# Altium schematic symbol library 开关·连接器.SCHLIB: 72 symbols
Pins are listed as number, name and electrical type; pins without a type are passive.

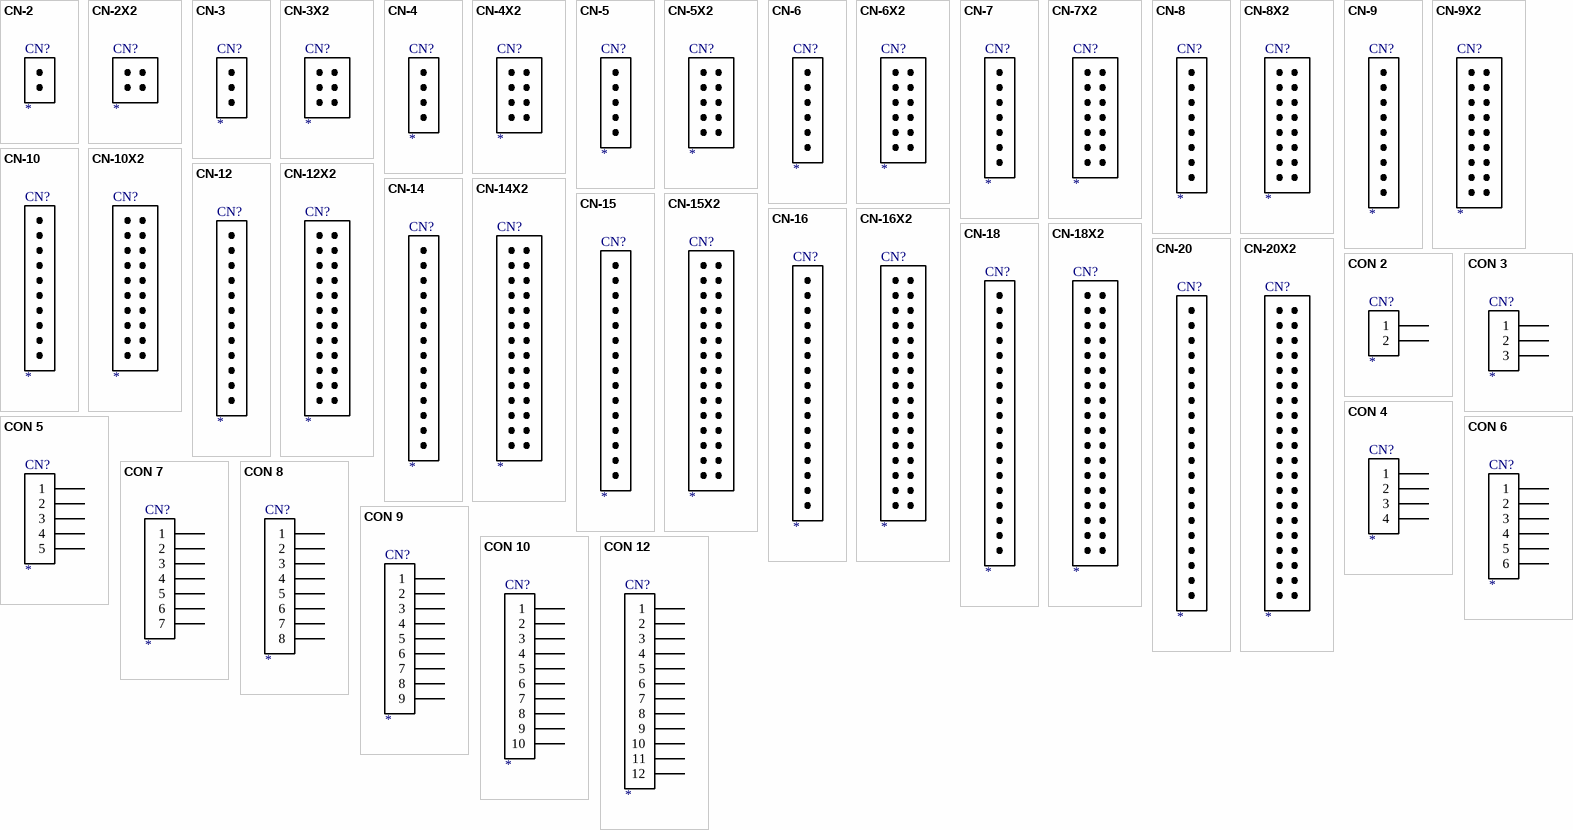
[diagram p0: symbols CN-2 to CON 12]

## CN-2
designator CN?
footprint SIP-2
footprint CN-2
pins: 1, 2

## CN-2X2
designator CN?
footprint IDC-4
pins: 1, 2, 3, 4

## CN-3
designator CN?
footprint SIP-3
footprint CN-3
pins: 1, 2, 3

## CN-3X2
designator CN?
footprint IDC-6
pins: 1, 2, 3, 4, 5, 6

## CN-4
designator CN?
footprint SIP-4
footprint CN-4
pins: 1, 2, 3, 4

## CN-4X2
designator CN?
footprint IDC-8
pins: 1, 2, 3, 4, 5, 6, 7, 8

## CN-5
designator CN?
footprint SIP-5
footprint CN-5
pins: 1, 2, 3, 4, 5

## CN-5X2
designator CN?
footprint IDC-10
pins: 1, 2, 3, 4, 5, 6, 7, 8, 9, 10

## CN-6
designator CN?
footprint SIP-6
footprint CN-6
pins: 1, 2, 3, 4, 5, 6

## CN-6X2
designator CN?
footprint IDC-12
pins: 1, 2, 3, 4, 5, 6, 7, 8, 9, 10, 11, 12

## CN-7
designator CN?
footprint SIP-7
footprint CN-7
pins: 1, 2, 3, 4, 5, 6, 7

## CN-7X2
designator CN?
footprint IDC-14
pins: 1, 2, 3, 4, 5, 6, 7, 8, 9, 10, 11, 12, 13, 14

## CN-8
designator CN?
footprint SIP-8
footprint CN-8
pins: 1, 2, 3, 4, 5, 6, 7, 8

## CN-8X2
designator CN?
footprint IDC-16
pins: 1, 2, 3, 4, 5, 6, 7, 8, 9, 10, 11, 12, 13, 14, 15, 16

## CN-9
designator CN?
footprint SIP-9
footprint CN-9
pins: 1, 2, 3, 4, 5, 6, 7, 8, 9

## CN-9X2
designator CN?
footprint IDC-18
pins: 1, 2, 3, 4, 5, 6, 7, 8, 9, 10, 11, 12, 13, 14, 15, 16, 17, 18

## CN-10
designator CN?
footprint SIP-10
footprint CN-10
pins: 1, 2, 3, 4, 5, 6, 7, 8, 9, 10

## CN-10X2
designator CN?
footprint IDC-20
pins: 1, 2, 3, 4, 5, 6, 7, 8, 9, 10, 11, 12, 13, 14, 15, 16, 17, 18, 19, 20

## CN-12
designator CN?
footprint SIP-12
pins: 1, 2, 3, 4, 5, 6, 7, 8, 9, 10, 11, 12

## CN-12X2
designator CN?
footprint IDC-24
pins: 1, 2, 3, 4, 5, 6, 7, 8, 9, 10, 11, 12, 13, 14, 15, 16, 17, 18, 19, 20, 21, 22, 23, 24

## CN-14
designator CN?
footprint SIP-14
pins: 1, 2, 3, 4, 5, 6, 7, 8, 9, 10, 11, 12, 13, 14

## CN-14X2
designator CN?
footprint IDC-28
pins: 1, 2, 3, 4, 5, 6, 7, 8, 9, 10, 11, 12, 13, 14, 15, 16, 17, 18, 19, 20, 21, 22, 23, 24, 25, 26, 27, 28

## CN-15
designator CN?
footprint SIP-15
pins: 1, 2, 3, 4, 5, 6, 7, 8, 9, 10, 11, 12, 13, 14, 15

## CN-15X2
designator CN?
footprint IDC-30
pins: 1, 2, 3, 4, 5, 6, 7, 8, 9, 10, 11, 12, 13, 14, 15, 16, 17, 18, 19, 20, 21, 22, 23, 24, 25, 26, 27, 28, 29, 30

## CN-16
designator CN?
footprint SIP-16
pins: 1, 2, 3, 4, 5, 6, 7, 8, 9, 10, 11, 12, 13, 14, 15, 16

## CN-16X2
designator CN?
footprint IDC-32
pins: 1, 2, 3, 4, 5, 6, 7, 8, 9, 10, 11, 12, 13, 14, 15, 16, 17, 18, 19, 20, 21, 22, 23, 24, 25, 26, 27, 28, 29, 30, 31, 32

## CN-18
designator CN?
footprint SIP-18
pins: 1, 2, 3, 4, 5, 6, 7, 8, 9, 10, 11, 12, 13, 14, 15, 16, 17, 18

## CN-18X2
designator CN?
footprint IDC-36
pins: 1, 2, 3, 4, 5, 6, 7, 8, 9, 10, 11, 12, 13, 14, 15, 16, 17, 18, 19, 20, 21, 22, 23, 24, 25, 26, 27, 28, 29, 30, 31, 32, 33, 34, 35, 36

## CN-20
designator CN?
footprint SIP-20
pins: 1, 2, 3, 4, 5, 6, 7, 8, 9, 10, 11, 12, 13, 14, 15, 16, 17, 18, 19, 20

## CN-20X2
designator CN?
footprint IDC-40
pins: 1, 2, 3, 4, 5, 6, 7, 8, 9, 10, 11, 12, 13, 14, 15, 16, 17, 18, 19, 20, 21, 22, 23, 24, 25, 26, 27, 28, 29, 30, 31, 32, 33, 34, 35, 36, 37, 38, 39, 40

## CON 2
designator CN?
footprint SIP-2
footprint CN-2
pins: 1, 2

## CON 3
designator CN?
footprint SIP-3
footprint CN-3
pins: 1, 2, 3

## CON 4
designator CN?
footprint SIP-4
footprint CN-4
pins: 1, 2, 3, 4

## CON 5
designator CN?
footprint SIP-5
footprint CN-5
pins: 1, 2, 3, 4, 5

## CON 6
designator CN?
footprint SIP-6
footprint CN-6
pins: 1, 2, 3, 4, 5, 6

## CON 7
designator CN?
footprint SIP-7
footprint CN-7
pins: 1, 2, 3, 4, 5, 6, 7

## CON 8
designator CN?
footprint SIP-8
footprint CN-8
pins: 1, 2, 3, 4, 5, 6, 7, 8

## CON 9
designator CN?
footprint SIP-9
footprint CN-9
pins: 1, 2, 3, 4, 5, 6, 7, 8, 9

## CON 10
designator CN?
footprint SIP-10
footprint CN-10
pins: 1, 2, 3, 4, 5, 6, 7, 8, 9, 10

## CON 12
designator CN?
footprint SIP-12
pins: 1, 2, 3, 4, 5, 6, 7, 8, 9, 10, 11, 12

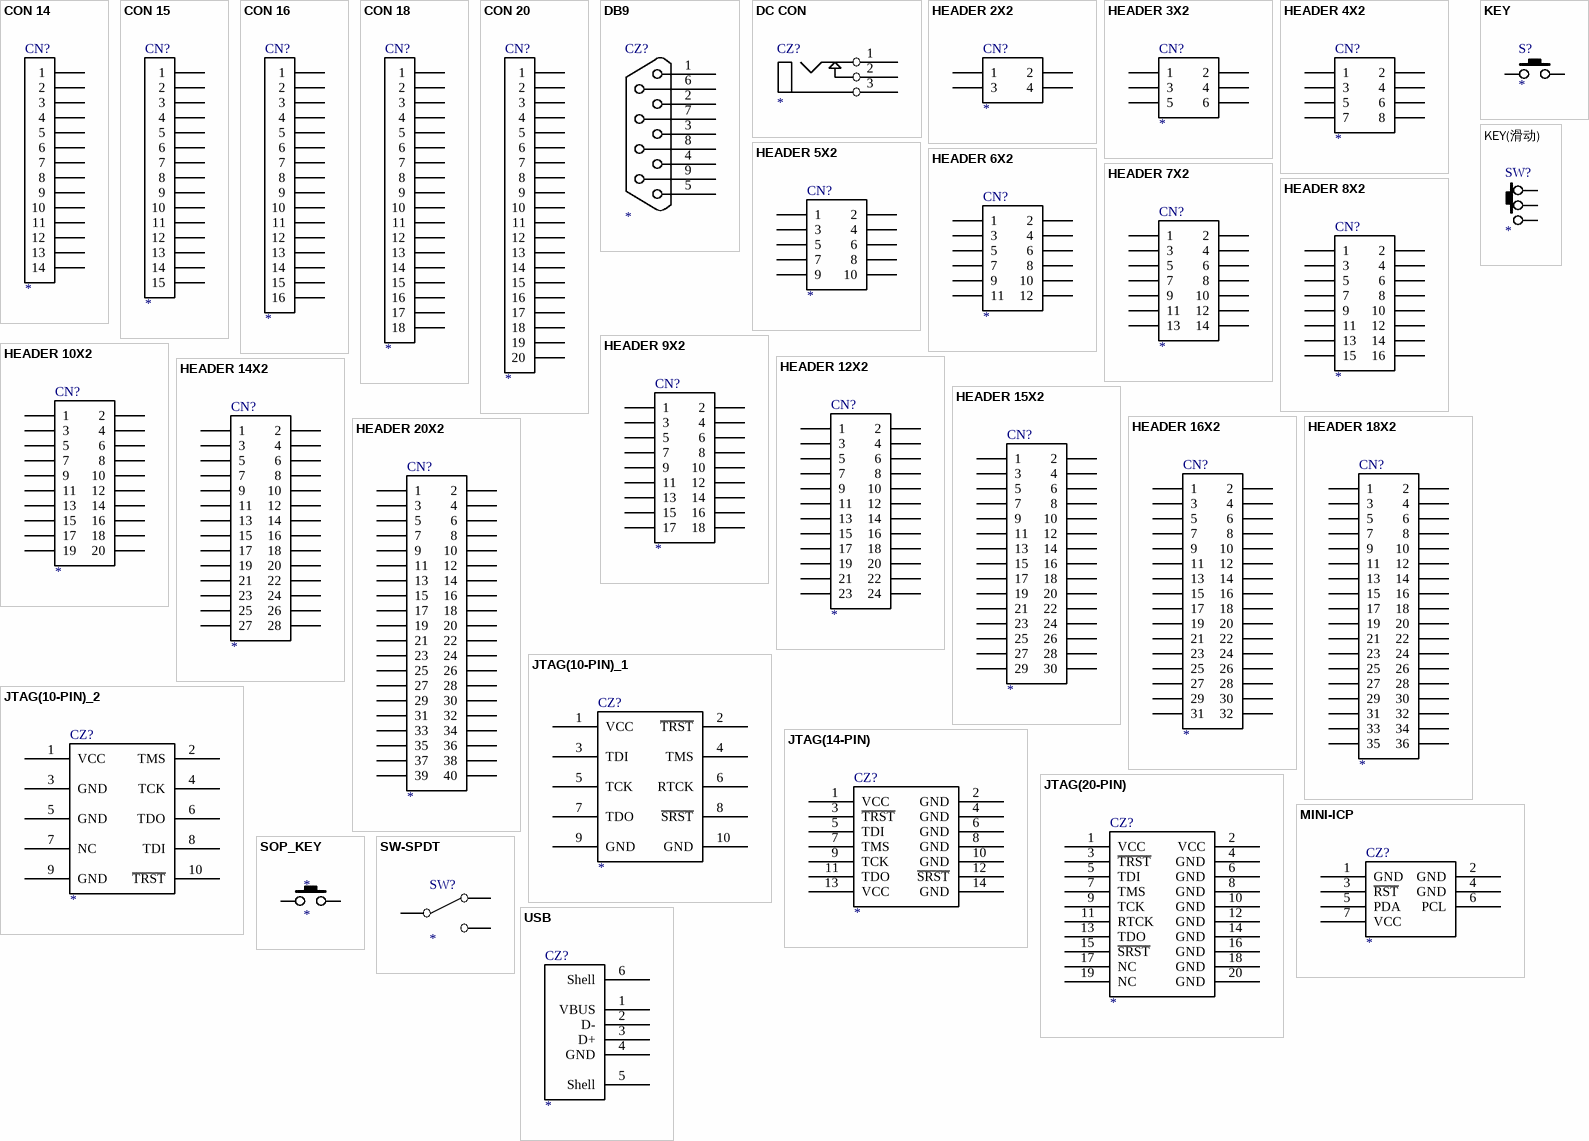
[diagram p1: symbols CON 14 to USB]

## CON 14
designator CN?
footprint SIP-14
pins: 1, 2, 3, 4, 5, 6, 7, 8, 9, 10, 11, 12, 13, 14

## CON 15
designator CN?
footprint SIP-15
pins: 1, 2, 3, 4, 5, 6, 7, 8, 9, 10, 11, 12, 13, 14, 15

## CON 16
designator CN?
footprint SIP-16
pins: 1, 2, 3, 4, 5, 6, 7, 8, 9, 10, 11, 12, 13, 14, 15, 16

## CON 18
designator CN?
footprint SIP-18
pins: 1, 2, 3, 4, 5, 6, 7, 8, 9, 10, 11, 12, 13, 14, 15, 16, 17, 18

## CON 20
designator CN?
footprint SIP-20
pins: 1, 2, 3, 4, 5, 6, 7, 8, 9, 10, 11, 12, 13, 14, 15, 16, 17, 18, 19, 20

## DB9
designator CZ?
footprint DB9-F(90°)
footprint DB9-M(90°)
pins: 1, 2, 3, 4, 5, 6, 7, 8, 9

## DC CON
designator CZ?
footprint DC-005(P)
footprint DC-005(N)
pins: 1 A, 2 B, 3 C

## HEADER 2X2
designator CN?
footprint IDC-4
pins: 1, 2, 3, 4

## HEADER 3X2
designator CN?
footprint IDC-6
pins: 1, 2, 3, 4, 5, 6

## HEADER 4X2
designator CN?
footprint IDC-8
pins: 1, 2, 3, 4, 5, 6, 7, 8

## HEADER 5X2
designator CN?
footprint IDC-10
pins: 1, 2, 3, 4, 5, 6, 7, 8, 9, 10

## HEADER 6X2
designator CN?
footprint IDC-12
pins: 1, 2, 3, 4, 5, 6, 7, 8, 9, 10, 11, 12

## HEADER 7X2
designator CN?
footprint IDC-14
pins: 1, 2, 3, 4, 5, 6, 7, 8, 9, 10, 11, 12, 13, 14

## HEADER 8X2
designator CN?
footprint IDC-16
pins: 1, 2, 3, 4, 5, 6, 7, 8, 9, 10, 11, 12, 13, 14, 15, 16

## HEADER 9X2
designator CN?
footprint IDC-18
pins: 1, 2, 3, 4, 5, 6, 7, 8, 9, 10, 11, 12, 13, 14, 15, 16, 17, 18

## HEADER 10X2
designator CN?
footprint IDC-20
pins: 1, 2, 3, 4, 5, 6, 7, 8, 9, 10, 11, 12, 13, 14, 15, 16, 17, 18, 19, 20

## HEADER 12X2
designator CN?
footprint IDC-24
pins: 1, 2, 3, 4, 5, 6, 7, 8, 9, 10, 11, 12, 13, 14, 15, 16, 17, 18, 19, 20, 21, 22, 23, 24

## HEADER 14X2
designator CN?
footprint IDC-28
pins: 1, 2, 3, 4, 5, 6, 7, 8, 9, 10, 11, 12, 13, 14, 15, 16, 17, 18, 19, 20, 21, 22, 23, 24, 25, 26, 27, 28

## HEADER 15X2
designator CN?
footprint IDC-30
pins: 1, 2, 3, 4, 5, 6, 7, 8, 9, 10, 11, 12, 13, 14, 15, 16, 17, 18, 19, 20, 21, 22, 23, 24, 25, 26, 27, 28, 29, 30

## HEADER 16X2
designator CN?
footprint IDC-32
pins: 1, 2, 3, 4, 5, 6, 7, 8, 9, 10, 11, 12, 13, 14, 15, 16, 17, 18, 19, 20, 21, 22, 23, 24, 25, 26, 27, 28, 29, 30, 31, 32

## HEADER 18X2
designator CN?
footprint IDC-36
pins: 1, 2, 3, 4, 5, 6, 7, 8, 9, 10, 11, 12, 13, 14, 15, 16, 17, 18, 19, 20, 21, 22, 23, 24, 25, 26, 27, 28, 29, 30, 31, 32, 33, 34, 35, 36

## HEADER 20X2
designator CN?
footprint IDC-40
pins: 1, 2, 3, 4, 5, 6, 7, 8, 9, 10, 11, 12, 13, 14, 15, 16, 17, 18, 19, 20, 21, 22, 23, 24, 25, 26, 27, 28, 29, 30, 31, 32, 33, 34, 35, 36, 37, 38, 39, 40

## JTAG(10-PIN)_1
designator CZ?
footprint IDE-10
pins: 1 VCC, 2 ~{TRST}, 3 TDI, 4 TMS, 5 TCK, 6 RTCK, 7 TDO, 8 ~{SRST}, 9 GND, 10 GND

## JTAG(10-PIN)_2
designator CZ?
footprint IDE-10
pins: 1 VCC, 2 TMS, 3 GND, 4 TCK, 5 GND, 6 TDO, 7 NC, 8 TDI, 9 GND, 10 ~{TRST}

## JTAG(14-PIN)
designator CZ?
footprint IDE-14
pins: 1 VCC, 2 GND, 3 ~{TRST}, 4 GND, 5 TDI, 6 GND, 7 TMS, 8 GND, 9 TCK, 10 GND, 11 TDO, 12 ~{SRST}, 13 VCC, 14 GND

## JTAG(20-PIN)
designator CZ?
footprint IDE-20
pins: 1 VCC, 2 VCC, 3 ~{TRST}, 4 GND, 5 TDI, 6 GND, 7 TMS, 8 GND, 9 TCK, 10 GND, 11 RTCK, 12 GND, 13 TDO, 14 GND, 15 ~{SRST}, 16 GND, 17 NC, 18 GND, 19 NC, 20 GND

## KEY
designator S?
footprint KEY(6X6,THT)
pins: 1, 2

## KEY(滑动)
designator SW?
footprint SW-SPDT(THT-1)
pins: 1, 2, 3

## MINI-ICP
designator CZ?
footprint IDC-7
pins: 1 GND, 2 GND, 3 ~{RST}, 4 GND, 5 PDA, 6 PCL, 7 VCC

## SOP_KEY
designator *
footprint SOP-KEY
pins: 1, 2

## SW-SPDT
designator SW?
footprint SW-SPDT(THT-1)
footprint SW-SPDT(THT-2)
pins: 1 NC, 2 COMMON, 3 NO

## USB
designator CZ?
Text Field1: 50; Text Field2: 50
footprint USB-A(F)
footprint USB-A(M)
footprint USB-B
pins: 1 VBUS, 2 D-, 3 D+, 4 GND, 5 Shell, 6 Shell
2 alternate drawings of the same symbol